# Altium footprint library LED(GREEN, 3V, 150mA, SMD-1411).PcbLib: 1 footprints
Each footprint in its own frame and in the unit in brackets; x right, y up, seen from the top. Pads: shape width x height; smd on the part's side, far side on the other; paste and mask are expansions set on the pad; w line width, h text height; cw(c..) or ccw(c..) is an arc to the next point about the centre after c.
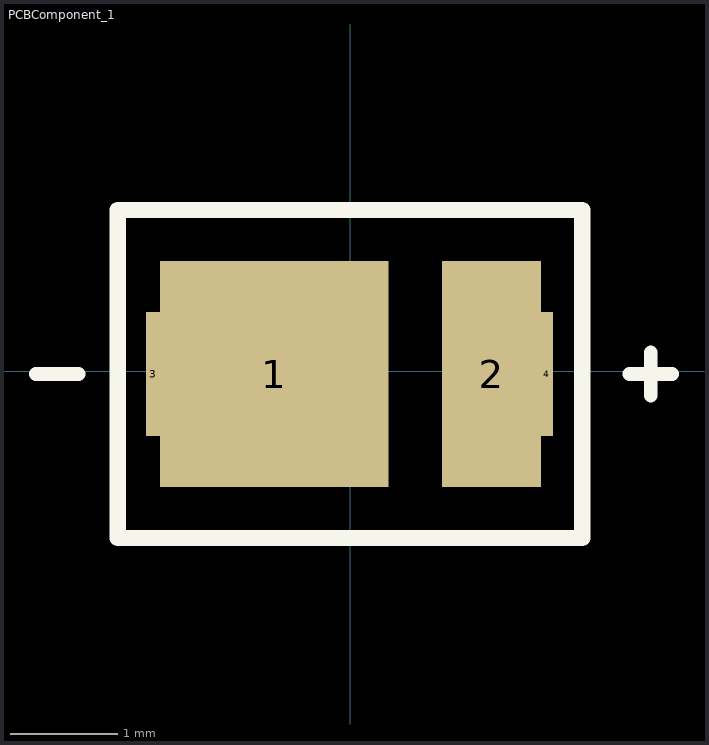
[diagram p0: the footprint, top view; thin cyan lines are the x and y axes]

## PCBComponent_1 [mm]
pads (4):
  rect 2.12x2.1 smd: 1(-0.705,-0.025)
  rect 0.92x2.1 smd: 2(1.315,-0.025)
  rect 0.13x1.15 smd: 3(-1.83,-0.025)
  rect 0.11x1.15 smd: 4(1.83,-0.025)
Top Overlay:
  lines w0.127: -2.921,-0.025 -2.521,-0.025 ; 2.594,-0.025 2.994,-0.025 ; 2.794,-0.225 2.794,0.175
  lines w0.152: -2.159,-1.549 -2.159,1.499 2.159,1.499 2.159,-1.549 -2.159,-1.549
3D body "GT_JTLPS1.13-KKLN-25-1.stp": height 0.7, standoff 0, extent -1.75,-1.425 1.75,1.375